# Altium schematic symbol library LDO_Microchip_MCP1812AT-018_1V8.SchLib: 1 symbol
Pins are listed as number, name and electrical type; pins without a type are passive.

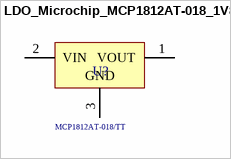
[diagram p0: symbol LDO_Microchip_MCP1812AT-018_1V8]

## LDO_Microchip_MCP1812AT-018_1V8
designator U?  Series: MCP1812AT-018/TT  (hidden comment: LDO_Microchip_MCP1812AT-018_1V8)
LDO Voltage Regulators Ultra Low Iq LDO; Supplier 1: Mouser; Supplier Part Number 1: 579-MCP1812AT-018/TT
footprint LDO_Microchip_MCP1812AT-018_1V8
pins: 1 VOUT (power) "Output Voltage.", 2 VIN (power) "Input Voltage Connection.", 3 GND (power) "Ground."